# Altium schematic symbol library MCU_Module.SchLib: 64 symbols (part 2 of 2)
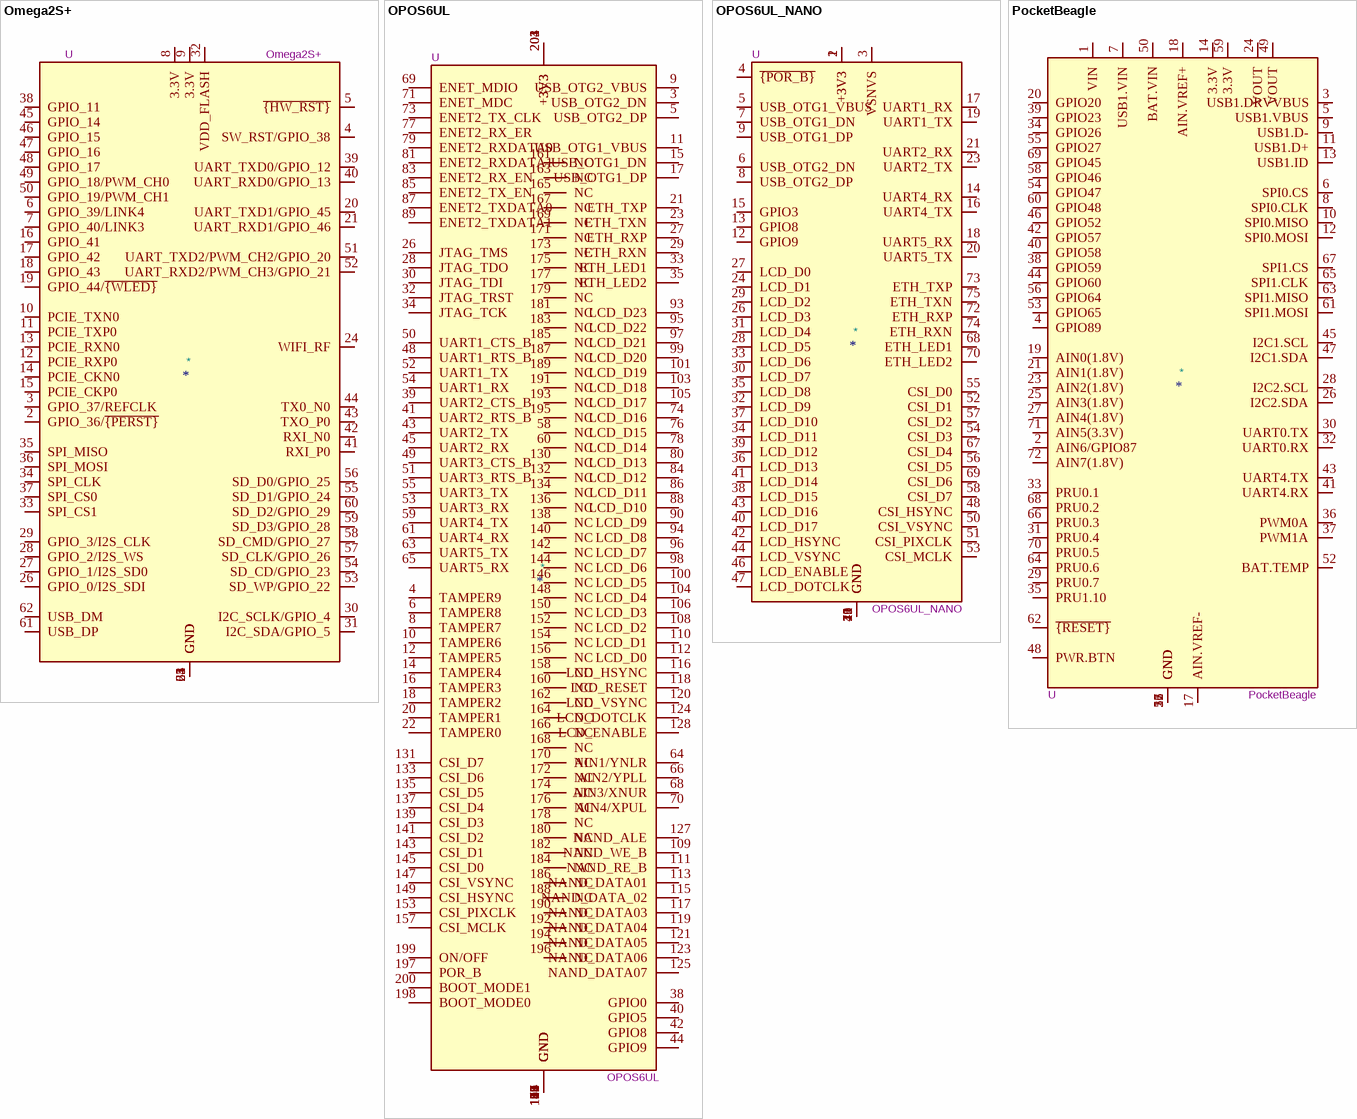
[diagram p12: symbols Omega2S+ to PocketBeagle]

## Omega2S+
designator *  value Omega2S+  Reference: U
Iot Computer Module by Onion, 128MB RAM, 32MB FLASH; ki_keywords: onion omega module; ki_fp_filters: Onion*Omega2S*; Footprint: Module:Onion_Omega2S; Datasheet: https://github.com/OnionIoT/Omega2/raw/master/Documents/Omega2S%20Datasheet.pdf; Description_: Iot Computer Module by Onion, 128MB RAM, 32MB FLASH
pins: 1 GND, 2 GPIO_36/~{{PERST}}, 3 GPIO_37/REFCLK, 4 SW_RST/GPIO_38, 5 ~{{HW_RST}}, 6 GPIO_39/LINK4, 7 GPIO_40/LINK3, 8 3.3V, 9 3.3V, 10 PCIE_TXN0, 11 PCIE_TXP0, 12 PCIE_RXP0, 13 PCIE_RXN0, 14 PCIE_CKN0, 15 PCIE_CKP0, 16 GPIO_41, 17 GPIO_42, 18 GPIO_43, 19 GPIO_44/~{{WLED}}, 20 UART_TXD1/GPIO_45, 21 UART_RXD1/GPIO_46, 22 GND, 23 GND, 24 WIFI_RF, 25 GND, 26 GPIO_0/I2S_SDI, 27 GPIO_1/I2S_SD0, 28 GPIO_2/I2S_WS, 29 GPIO_3/I2S_CLK, 30 I2C_SCLK/GPIO_4, 31 I2C_SDA/GPIO_5, 32 VDD_FLASH, 33 SPI_CS1, 34 SPI_CLK, 35 SPI_MISO, 36 SPI_MOSI, 37 SPI_CS0, 38 GPIO_11, 39 UART_TXD0/GPIO_12, 40 UART_RXD0/GPIO_13, 41 RXI_P0, 42 RXI_N0, 43 TXO_P0, 44 TX0_N0, 45 GPIO_14, 46 GPIO_15, 47 GPIO_16, 48 GPIO_17, 49 GPIO_18/PWM_CH0, 50 GPIO_19/PWM_CH1, 51 UART_TXD2/PWM_CH2/GPIO_20, 52 UART_RXD2/PWM_CH3/GPIO_21, 53 SD_WP/GPIO_22, 54 SD_CD/GPIO_23, 55 SD_D1/GPIO_24, 56 SD_D0/GPIO_25, 57 SD_CLK/GPIO_26, 58 SD_CMD/GPIO_27, 59 SD_D3/GPIO_28, 60 SD_D2/GPIO_29, 61 USB_DP, 62 USB_DM, 63 GND, 64 GND

## OPOS6UL
designator *  value OPOS6UL  Reference: U
Armadeus Systems i.MX6UL based single board computer, SODIMM; ki_keywords: armadeus systems opos6ul sbc som compute module; ki_fp_filters: *SODIMM*; Datasheet: http://www.opossom.com/_downloads/opos6ul/documentation/datasheet_opos6ul.pdf; Description_: Armadeus Systems i.MX6UL based single board computer, SODIMM
pins: 1 GND, 2 GND, 3 USB_OTG2_DN, 4 TAMPER9, 5 USB_OTG2_DP, 6 TAMPER8, 7 GND, 8 TAMPER7, 9 USB_OTG2_VBUS, 10 TAMPER6, 11 USB_OTG1_VBUS, 12 TAMPER5, 13 GND, 14 TAMPER4, 15 USB_OTG1_DN, 16 TAMPER3, 17 USB_OTG1_DP, 18 TAMPER2, 19 GND, 20 TAMPER1, 21 ETH_TXP, 22 TAMPER0, 23 ETH_TXN, 24 GND, 25 GND, 26 JTAG_TMS, 27 ETH_RXP, 28 JTAG_TDO, 29 ETH_RXN, 30 JTAG_TDI, 31 GND, 32 JTAG_TRST, 33 ETH_LED1, 34 JTAG_TCK, 35 ETH_LED2, 36 GND, 37 GND, 38 GPIO0, 39 UART2_CTS_B, 40 GPIO5, 41 UART2_RTS_B, 42 GPIO8, 43 UART2_TX, 44 GPIO9, 45 UART2_RX, 46 GND, 47 GND, 48 UART1_RTS_B, 49 UART3_CTS_B, 50 UART1_CTS_B, 51 UART3_RTS_B, 52 UART1_TX, 53 UART3_RX, 54 UART1_RX, 55 UART3_TX, 56 GND, 57 GND, 58 NC, 59 UART4_TX, 60 NC, 61 UART4_RX, 62 GND, 63 UART5_TX, 64 AIN1/YNLR, 65 UART5_RX, 66 AIN2/YPLL, 67 GND, 68 AIN3/XNUR, 69 ENET_MDIO, 70 AIN4/XPUL, 71 ENET_MDC, 72 GND, 73 ENET2_TX_CLK, 74 LCD_D16, 75 GND, 76 LCD_D15, 77 ENET2_RX_ER, 78 LCD_D14, 79 ENET2_RXDATA0, 80 LCD_D13, 81 ENET2_RXDATA1, 82 GND, 83 ENET2_RX_EN, 84 LCD_D12, 85 ENET2_TX_EN, 86 LCD_D11, 87 ENET2_TXDATA0, 88 LCD_D10, 89 ENET2_TXDATA1, 90 LCD_D9, 91 GND, 92 GND, 93 LCD_D23, 94 LCD_D8, 95 LCD_D22, 96 LCD_D7, 97 LCD_D21, 98 LCD_D6, 99 LCD_D20, 100 LCD_D5, 101 LCD_D19, 102 GND, 103 LCD_D18, 104 LCD_D4, 105 LCD_D17, 106 LCD_D3, 107 GND, 108 LCD_D2, 109 NAND_WE_B, 110 LCD_D1, 111 NAND_RE_B, 112 LCD_D0, 113 NAND_DATA01, 114 GND, 115 NAND_DATA_02, 116 LCD_HSYNC, 117 NAND_DATA03, 118 LCD_RESET, 119 NAND_DATA04, 120 LCD_VSYNC, 121 NAND_DATA05, 122 GND, 123 NAND_DATA06, 124 LCD_DOTCLK, 125 NAND_DATA07, 126 GND, 127 NAND_ALE, 128 LCD_ENABLE, 129 GND, 130 NC, 131 CSI_D7, 132 NC, 133 CSI_D6, 134 NC, 135 CSI_D5, 136 NC, 137 CSI_D4, 138 NC, 139 CSI_D3, 140 NC, 141 CSI_D2, 142 NC, 143 CSI_D1, 144 NC, 145 CSI_D0, 146 NC, 147 CSI_VSYNC, 148 NC, 149 CSI_HSYNC, 150 NC, 151 GND, 152 NC, 153 CSI_PIXCLK, 154 NC, 155 GND, 156 NC, 157 CSI_MCLK, 158 NC, 159 GND, 160 NC, 161 NC, 162 NC, 163 NC, 164 NC, 165 NC, 166 NC, 167 NC, 168 NC, 169 NC, 170 NC, 171 NC, 172 NC, 173 NC, 174 NC, 175 NC, 176 NC, 177 NC, 178 NC, 179 NC, 180 NC, 181 NC, 182 NC, 183 NC, 184 NC, 185 NC, 186 NC, 187 NC, 188 NC, 189 NC, 190 NC, 191 NC, 192 NC, 193 NC, 194 NC, 195 NC, 196 NC, 197 POR_B, 198 BOOT_MODE0, 199 ON/OFF, 200 BOOT_MODE1, 201 +3V3, 202 +3V3, 203 +3V3, 204 +3V3

## OPOS6UL_NANO
designator *  value OPOS6UL_NANO  Reference: U
NXP i.MX6ULL/i.MX6UL, 256 or 512 MB RAM, industrial SoM computer, M.2M (NGFF); ki_keywords: opos6ul compute module; ki_fp_filters: *M.2*; Datasheet: http://www.opossom.com/_downloads/opos6ul_nano/datasheet_opos6ul_nano.pdf; Description_: NXP i.MX6ULL/i.MX6UL, 256 or 512 MB RAM, industrial SoM computer, M.2M (NGFF)
pins: 1 +3V3, 2 +3V3, 3 VSNVS, 4 ~{{POR_B}}, 5 USB_OTG1_VBUS, 6 USB_OTG2_DN, 7 USB_OTG1_DN, 8 USB_OTG2_DP, 9 USB_OTG1_DP, 10 GND, 11 GND, 12 GPIO9, 13 GPIO8, 14 UART4_RX, 15 GPIO3, 16 UART4_TX, 17 UART1_RX, 18 UART5_RX, 19 UART1_TX, 20 UART5_TX, 21 UART2_RX, 22 GND, 23 UART2_TX, 24 LCD_D1, 25 GND, 26 LCD_D3, 27 LCD_D0, 28 LCD_D5, 29 LCD_D2, 30 LCD_D7, 31 LCD_D4, 32 LCD_D9, 33 LCD_D6, 34 LCD_D11, 35 LCD_D8, 36 LCD_D13, 37 LCD_D10, 38 LCD_D15, 39 LCD_D12, 40 LCD_D17, 41 LCD_D14, 42 LCD_HSYNC, 43 LCD_D16, 44 LCD_VSYNC, 45 GND, 46 LCD_ENABLE, 47 LCD_DOTCLK, 48 CSI_HSYNC, 49 GND, 50 CSI_VSYNC, 51 CSI_PIXCLK, 52 CSI_D1, 53 CSI_MCLK, 54 CSI_D3, 55 CSI_D0, 56 CSI_D5, 57 CSI_D2, 58 CSI_D7, 67 CSI_D4, 68 ETH_LED1, 69 CSI_D6, 70 ETH_LED2, 71 GND, 72 ETH_RXP, 73 ETH_TXP, 74 ETH_RXN, 75 ETH_TXN

## PocketBeagle
designator *  value PocketBeagle  Reference: U
Singleboard computer with ARM Cortex-A8 1GHz, 512MB RAM; ki_keywords: beagleboard pocketbeagle; ki_fp_filters: BeagleBoard*PocketBeagle*; Footprint: Module:BeagleBoard_PocketBeagle; Datasheet: https://github.com/beagleboard/pocketbeagle/wiki/System-Reference-Manual; Description_: Singleboard computer with ARM Cortex-A8 1GHz, 512MB RAM
pins: 1 VIN, 2 AIN6/GPIO87, 3 USB1.DRVVBUS, 4 GPIO89, 5 USB1.VBUS, 6 SPI0.CS, 7 USB1.VIN, 8 SPI0.CLK, 9 USB1.D-, 10 SPI0.MISO, 11 USB1.D+, 12 SPI0.MOSI, 13 USB1.ID, 14 3.3V, 15 GND, 16 GND, 17 AIN.VREF-, 18 AIN.VREF+, 19 AIN0(1.8V), 20 GPIO20, 21 AIN1(1.8V), 22 GND, 23 AIN2(1.8V), 24 VOUT, 25 AIN3(1.8V), 26 I2C2.SDA, 27 AIN4(1.8V), 28 I2C2.SCL, 29 PRU0.7, 30 UART0.TX, 31 PRU0.4, 32 UART0.RX, 33 PRU0.1, 34 GPIO26, 35 PRU1.10, 36 PWM0A, 37 PWM1A, 38 GPIO59, 39 GPIO23, 40 GPIO58, 41 UART4.RX, 42 GPIO57, 43 UART4.TX, 44 GPIO60, 45 I2C1.SCL, 46 GPIO52, 47 I2C1.SDA, 48 PWR.BTN, 49 VOUT, 50 BAT.VIN, 51 GND, 52 BAT.TEMP, 53 GPIO65, 54 GPIO47, 55 GPIO27, 56 GPIO64, 57 GND, 58 GPIO46, 59 3.3V, 60 GPIO48, 61 SPI1.MOSI, 62 ~{{RESET}}, 63 SPI1.MISO, 64 PRU0.6, 65 SPI1.CLK, 66 PRU0.3, 67 SPI1.CS, 68 PRU0.2, 69 GPIO45, 70 PRU0.5, 71 AIN5(3.3V), 72 AIN7(1.8V)

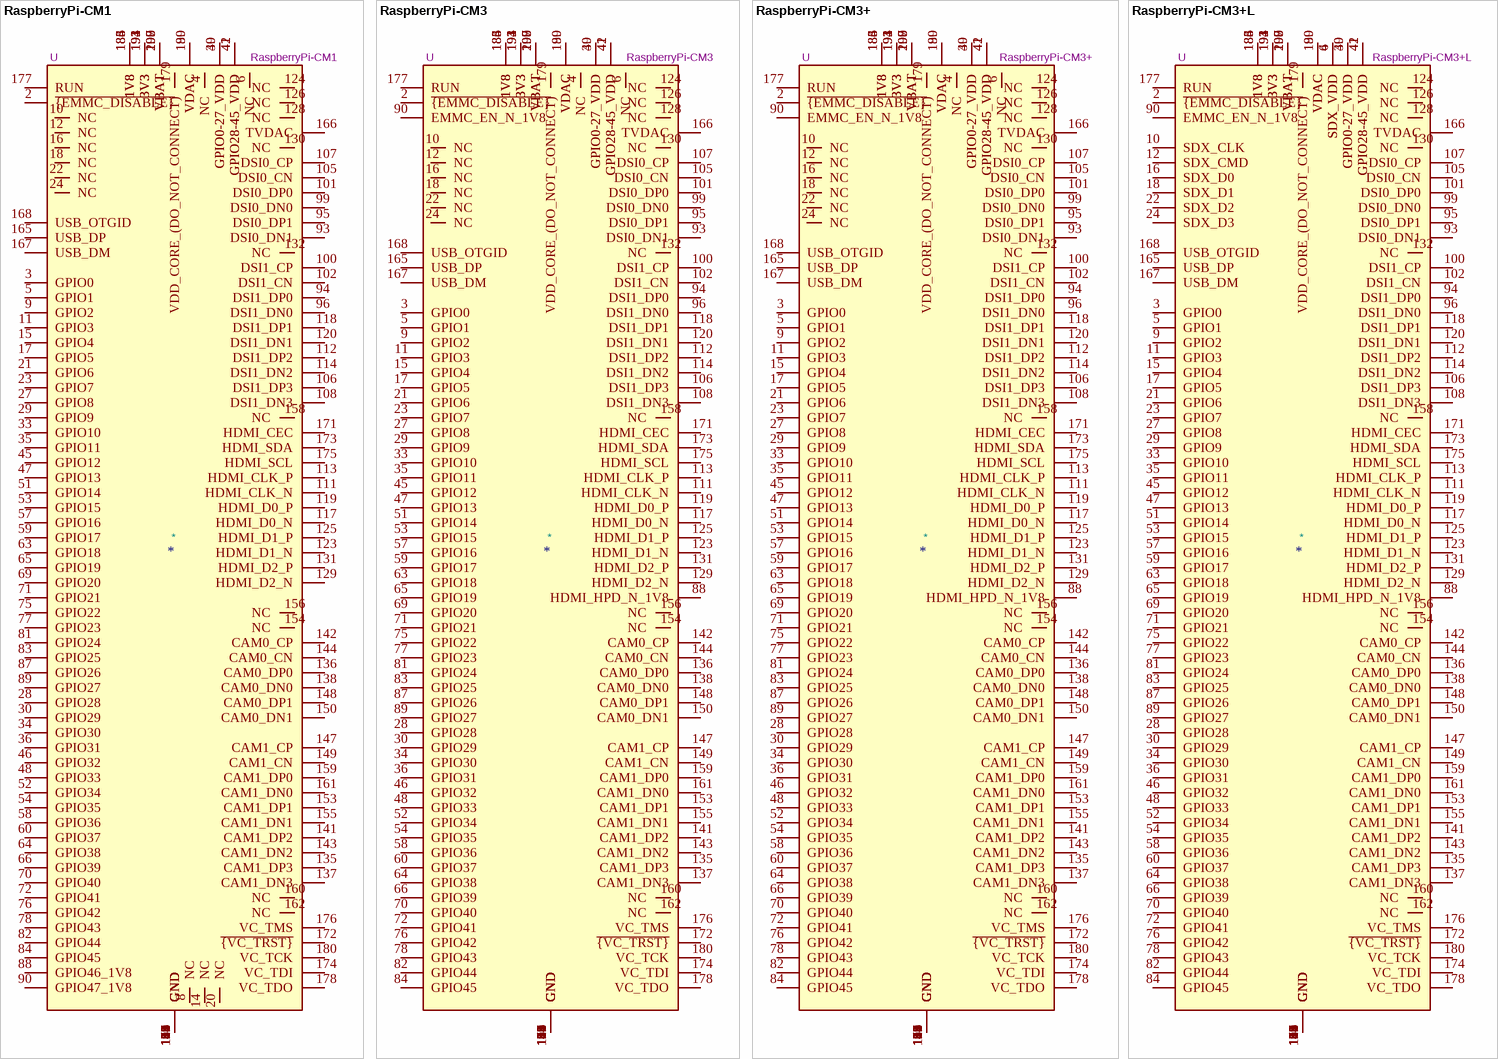
[diagram p8: symbols RaspberryPi-CM1 to RaspberryPi-CM3+L]

## RaspberryPi-CM1
designator *  value RaspberryPi-CM1  Reference: U
BCM2835 Broadcom 700 MZ single core, 512 MB RAM 4 GB eMMC, industrial SoM computer; ki_keywords: raspberry pi compute module; ki_fp_filters: *SODIMM*; Datasheet: https://www.raspberrypi.org/documentation/hardware/computemodule/datasheets/rpi_DATA_CM_1p0.pdf; Description_: BCM2835 Broadcom 700 MZ single core, 512 MB RAM 4 GB eMMC, industrial SoM computer
pins: 1 GND, 2 ~{{EMMC_DISABLE}}, 3 GPIO0, 4 NC, 5 GPIO1, 6 NC, 7 GND, 8 NC, 9 GPIO2, 10 NC, 11 GPIO3, 12 NC, 13 GND, 14 NC, 15 GPIO4, 16 NC, 17 GPIO5, 18 NC, 19 GND, 20 NC, 21 GPIO6, 22 NC, 23 GPIO7, 24 NC, 25 GND, 26 GND, 27 GPIO8, 28 GPIO28, 29 GPIO9, 30 GPIO29, 31 GND, 32 GND, 33 GPIO10, 34 GPIO30, 35 GPIO11, 36 GPIO31, 37 GND, 38 GND, 39 GPIO0-27_VDD, 40 GPIO0-27_VDD, 41 GPIO28-45_VDD, 42 GPIO28-45_VDD, 43 GND, 44 GND, 45 GPIO12, 46 GPIO32, 47 GPIO13, 48 GPIO33, 49 GND, 50 GND, 51 GPIO14, 52 GPIO34, 53 GPIO15, 54 GPIO35, 55 GND, 56 GND, 57 GPIO16, 58 GPIO36, 59 GPIO17, 60 GPIO37, 61 GND, 62 GND, 63 GPIO18, 64 GPIO38, 65 GPIO19, 66 GPIO39, 67 GND, 68 GND, 69 GPIO20, 70 GPIO40, 71 GPIO21, 72 GPIO41, 73 GND, 74 GND, 75 GPIO22, 76 GPIO42, 77 GPIO23, 78 GPIO43, 79 GND, 80 GND, 81 GPIO24, 82 GPIO44, 83 GPIO25, 84 GPIO45, 85 GND, 86 GND, 87 GPIO26, 88 GPIO46_1V8, 89 GPIO27, 90 GPIO47_1V8, 91 GND, 92 GND, 93 DSI0_DN1, 94 DSI1_DP0, 95 DSI0_DP1, 96 DSI1_DN0, 97 GND, 98 GND, 99 DSI0_DN0, 100 DSI1_CP, 101 DSI0_DP0, 102 DSI1_CN, 103 GND, 104 GND, 105 DSI0_CN, 106 DSI1_DP3, 107 DSI0_CP, 108 DSI1_DN3, 109 GND, 110 GND, 111 HDMI_CLK_N, 112 DSI1_DP2, 113 HDMI_CLK_P, 114 DSI1_DN2, 115 GND, 116 GND, 117 HDMI_D0_N, 118 DSI1_DP1, 119 HDMI_D0_P, 120 DSI1_DN1, 121 GND, 122 GND, 123 HDMI_D1_N, 124 NC, 125 HDMI_D1_P, 126 NC, 127 GND, 128 NC, 129 HDMI_D2_N, 130 NC, 131 HDMI_D2_P, 132 NC, 133 GND, 134 GND, 135 CAM1_DP3, 136 CAM0_DP0, 137 CAM1_DN3, 138 CAM0_DN0, 139 GND, 140 GND, 141 CAM1_DP2, 142 CAM0_CP, 143 CAM1_DN2, 144 CAM0_CN, 145 GND, 146 GND, 147 CAM1_CP, 148 CAM0_DP1, 149 CAM1_CN, 150 CAM0_DN1, 151 GND, 152 GND, 153 CAM1_DP1, 154 NC, 155 CAM1_DN1, 156 NC, 157 GND, 158 NC, 159 CAM1_DP0, 160 NC, 161 CAM1_DN0, 162 NC, 163 GND, 164 GND, 165 USB_DP, 166 TVDAC, 167 USB_DM, 168 USB_OTGID, 169 GND, 170 GND, 171 HDMI_CEC, 172 ~{{VC_TRST}}, 173 HDMI_SDA, 174 VC_TDI, 175 HDMI_SCL, 176 VC_TMS, 177 RUN, 178 VC_TDO, 179 VDD_CORE_(DO_NOT_CONNECT), 180 VC_TCK, 181 GND, 182 GND, 183 1V8, 184 1V8, 185 1V8, 186 1V8, 187 GND, 188 GND, 189 VDAC, 190 VDAC, 191 3V3, 192 3V3, 193 3V3, 194 3V3, 195 GND, 196 GND, 197 VBAT, 198 VBAT, 199 VBAT, 200 VBAT

## RaspberryPi-CM3
designator *  value RaspberryPi-CM3  Reference: U
BCM2837 Broadcom 1.2 GHZ quad core, 1 GB RAM 4 GB eMMC,  industrial SoM computer; ki_keywords: raspberry pi compute module; ki_fp_filters: *SODIMM*; Datasheet: https://www.raspberrypi.org/documentation/hardware/computemodule/datasheets/rpi_DATA_CM_1p0.pdf; Description_: BCM2837 Broadcom 1.2 GHZ quad core, 1 GB RAM 4 GB eMMC,  industrial SoM computer
pins: 1 GND, 2 ~{{EMMC_DISABLE}}, 3 GPIO0, 4 NC, 5 GPIO1, 6 NC, 7 GND, 8 GND, 9 GPIO2, 10 NC, 11 GPIO3, 12 NC, 13 GND, 14 GND, 15 GPIO4, 16 NC, 17 GPIO5, 18 NC, 19 GND, 20 GND, 21 GPIO6, 22 NC, 23 GPIO7, 24 NC, 25 GND, 26 GND, 27 GPIO8, 28 GPIO28, 29 GPIO9, 30 GPIO29, 31 GND, 32 GND, 33 GPIO10, 34 GPIO30, 35 GPIO11, 36 GPIO31, 37 GND, 38 GND, 39 GPIO0-27_VDD, 40 GPIO0-27_VDD, 41 GPIO28-45_VDD, 42 GPIO28-45_VDD, 43 GND, 44 GND, 45 GPIO12, 46 GPIO32, 47 GPIO13, 48 GPIO33, 49 GND, 50 GND, 51 GPIO14, 52 GPIO34, 53 GPIO15, 54 GPIO35, 55 GND, 56 GND, 57 GPIO16, 58 GPIO36, 59 GPIO17, 60 GPIO37, 61 GND, 62 GND, 63 GPIO18, 64 GPIO38, 65 GPIO19, 66 GPIO39, 67 GND, 68 GND, 69 GPIO20, 70 GPIO40, 71 GPIO21, 72 GPIO41, 73 GND, 74 GND, 75 GPIO22, 76 GPIO42, 77 GPIO23, 78 GPIO43, 79 GND, 80 GND, 81 GPIO24, 82 GPIO44, 83 GPIO25, 84 GPIO45, 85 GND, 86 GND, 87 GPIO26, 88 HDMI_HPD_N_1V8, 89 GPIO27, 90 EMMC_EN_N_1V8, 91 GND, 92 GND, 93 DSI0_DN1, 94 DSI1_DP0, 95 DSI0_DP1, 96 DSI1_DN0, 97 GND, 98 GND, 99 DSI0_DN0, 100 DSI1_CP, 101 DSI0_DP0, 102 DSI1_CN, 103 GND, 104 GND, 105 DSI0_CN, 106 DSI1_DP3, 107 DSI0_CP, 108 DSI1_DN3, 109 GND, 110 GND, 111 HDMI_CLK_N, 112 DSI1_DP2, 113 HDMI_CLK_P, 114 DSI1_DN2, 115 GND, 116 GND, 117 HDMI_D0_N, 118 DSI1_DP1, 119 HDMI_D0_P, 120 DSI1_DN1, 121 GND, 122 GND, 123 HDMI_D1_N, 124 NC, 125 HDMI_D1_P, 126 NC, 127 GND, 128 NC, 129 HDMI_D2_N, 130 NC, 131 HDMI_D2_P, 132 NC, 133 GND, 134 GND, 135 CAM1_DP3, 136 CAM0_DP0, 137 CAM1_DN3, 138 CAM0_DN0, 139 GND, 140 GND, 141 CAM1_DP2, 142 CAM0_CP, 143 CAM1_DN2, 144 CAM0_CN, 145 GND, 146 GND, 147 CAM1_CP, 148 CAM0_DP1, 149 CAM1_CN, 150 CAM0_DN1, 151 GND, 152 GND, 153 CAM1_DP1, 154 NC, 155 CAM1_DN1, 156 NC, 157 GND, 158 NC, 159 CAM1_DP0, 160 NC, 161 CAM1_DN0, 162 NC, 163 GND, 164 GND, 165 USB_DP, 166 TVDAC, 167 USB_DM, 168 USB_OTGID, 169 GND, 170 GND, 171 HDMI_CEC, 172 ~{{VC_TRST}}, 173 HDMI_SDA, 174 VC_TDI, 175 HDMI_SCL, 176 VC_TMS, 177 RUN, 178 VC_TDO, 179 VDD_CORE_(DO_NOT_CONNECT), 180 VC_TCK, 181 GND, 182 GND, 183 1V8, 184 1V8, 185 1V8, 186 1V8, 187 GND, 188 GND, 189 VDAC, 190 VDAC, 191 3V3, 192 3V3, 193 3V3, 194 3V3, 195 GND, 196 GND, 197 VBAT, 198 VBAT, 199 VBAT, 200 VBAT

## RaspberryPi-CM3+
designator *  value RaspberryPi-CM3+  Reference: U
BCM2837B0 Broadcom 1.2 GHZ quad core, 1 GB RAM 8/16/32 GB eMMC, industrial SoM computer; ki_keywords: raspberry pi compute module; ki_fp_filters: *SODIMM*; Datasheet: https://www.raspberrypi.org/documentation/hardware/computemodule/datasheets/rpi_DATA_CM3plus_1p0.pdf; Description_: BCM2837B0 Broadcom 1.2 GHZ quad core, 1 GB RAM 8/16/32 GB eMMC, industrial SoM computer
pins: 1 GND, 2 ~{{EMMC_DISABLE}}, 3 GPIO0, 4 NC, 5 GPIO1, 6 NC, 7 GND, 8 GND, 9 GPIO2, 10 NC, 11 GPIO3, 12 NC, 13 GND, 14 GND, 15 GPIO4, 16 NC, 17 GPIO5, 18 NC, 19 GND, 20 GND, 21 GPIO6, 22 NC, 23 GPIO7, 24 NC, 25 GND, 26 GND, 27 GPIO8, 28 GPIO28, 29 GPIO9, 30 GPIO29, 31 GND, 32 GND, 33 GPIO10, 34 GPIO30, 35 GPIO11, 36 GPIO31, 37 GND, 38 GND, 39 GPIO0-27_VDD, 40 GPIO0-27_VDD, 41 GPIO28-45_VDD, 42 GPIO28-45_VDD, 43 GND, 44 GND, 45 GPIO12, 46 GPIO32, 47 GPIO13, 48 GPIO33, 49 GND, 50 GND, 51 GPIO14, 52 GPIO34, 53 GPIO15, 54 GPIO35, 55 GND, 56 GND, 57 GPIO16, 58 GPIO36, 59 GPIO17, 60 GPIO37, 61 GND, 62 GND, 63 GPIO18, 64 GPIO38, 65 GPIO19, 66 GPIO39, 67 GND, 68 GND, 69 GPIO20, 70 GPIO40, 71 GPIO21, 72 GPIO41, 73 GND, 74 GND, 75 GPIO22, 76 GPIO42, 77 GPIO23, 78 GPIO43, 79 GND, 80 GND, 81 GPIO24, 82 GPIO44, 83 GPIO25, 84 GPIO45, 85 GND, 86 GND, 87 GPIO26, 88 HDMI_HPD_N_1V8, 89 GPIO27, 90 EMMC_EN_N_1V8, 91 GND, 92 GND, 93 DSI0_DN1, 94 DSI1_DP0, 95 DSI0_DP1, 96 DSI1_DN0, 97 GND, 98 GND, 99 DSI0_DN0, 100 DSI1_CP, 101 DSI0_DP0, 102 DSI1_CN, 103 GND, 104 GND, 105 DSI0_CN, 106 DSI1_DP3, 107 DSI0_CP, 108 DSI1_DN3, 109 GND, 110 GND, 111 HDMI_CLK_N, 112 DSI1_DP2, 113 HDMI_CLK_P, 114 DSI1_DN2, 115 GND, 116 GND, 117 HDMI_D0_N, 118 DSI1_DP1, 119 HDMI_D0_P, 120 DSI1_DN1, 121 GND, 122 GND, 123 HDMI_D1_N, 124 NC, 125 HDMI_D1_P, 126 NC, 127 GND, 128 NC, 129 HDMI_D2_N, 130 NC, 131 HDMI_D2_P, 132 NC, 133 GND, 134 GND, 135 CAM1_DP3, 136 CAM0_DP0, 137 CAM1_DN3, 138 CAM0_DN0, 139 GND, 140 GND, 141 CAM1_DP2, 142 CAM0_CP, 143 CAM1_DN2, 144 CAM0_CN, 145 GND, 146 GND, 147 CAM1_CP, 148 CAM0_DP1, 149 CAM1_CN, 150 CAM0_DN1, 151 GND, 152 GND, 153 CAM1_DP1, 154 NC, 155 CAM1_DN1, 156 NC, 157 GND, 158 NC, 159 CAM1_DP0, 160 NC, 161 CAM1_DN0, 162 NC, 163 GND, 164 GND, 165 USB_DP, 166 TVDAC, 167 USB_DM, 168 USB_OTGID, 169 GND, 170 GND, 171 HDMI_CEC, 172 ~{{VC_TRST}}, 173 HDMI_SDA, 174 VC_TDI, 175 HDMI_SCL, 176 VC_TMS, 177 RUN, 178 VC_TDO, 179 VDD_CORE_(DO_NOT_CONNECT), 180 VC_TCK, 181 GND, 182 GND, 183 1V8, 184 1V8, 185 1V8, 186 1V8, 187 GND, 188 GND, 189 VDAC, 190 VDAC, 191 3V3, 192 3V3, 193 3V3, 194 3V3, 195 GND, 196 GND, 197 VBAT, 198 VBAT, 199 VBAT, 200 VBAT

## RaspberryPi-CM3+L
designator *  value RaspberryPi-CM3+L  Reference: U
BCM2837B0 Broadcom 1.2 GHZ quad core, 1 GB RAM, industrial SoM computer; ki_keywords: raspberry pi compute module; ki_fp_filters: *SODIMM*; Datasheet: https://www.raspberrypi.org/documentation/hardware/computemodule/datasheets/rpi_DATA_CM3plus_1p0.pdf; Description_: BCM2837B0 Broadcom 1.2 GHZ quad core, 1 GB RAM, industrial SoM computer
pins: 1 GND, 2 ~{{EMMC_DISABLE}}, 3 GPIO0, 4 SDX_VDD, 5 GPIO1, 6 SDX_VDD, 7 GND, 8 GND, 9 GPIO2, 10 SDX_CLK, 11 GPIO3, 12 SDX_CMD, 13 GND, 14 GND, 15 GPIO4, 16 SDX_D0, 17 GPIO5, 18 SDX_D1, 19 GND, 20 GND, 21 GPIO6, 22 SDX_D2, 23 GPIO7, 24 SDX_D3, 25 GND, 26 GND, 27 GPIO8, 28 GPIO28, 29 GPIO9, 30 GPIO29, 31 GND, 32 GND, 33 GPIO10, 34 GPIO30, 35 GPIO11, 36 GPIO31, 37 GND, 38 GND, 39 GPIO0-27_VDD, 40 GPIO0-27_VDD, 41 GPIO28-45_VDD, 42 GPIO28-45_VDD, 43 GND, 44 GND, 45 GPIO12, 46 GPIO32, 47 GPIO13, 48 GPIO33, 49 GND, 50 GND, 51 GPIO14, 52 GPIO34, 53 GPIO15, 54 GPIO35, 55 GND, 56 GND, 57 GPIO16, 58 GPIO36, 59 GPIO17, 60 GPIO37, 61 GND, 62 GND, 63 GPIO18, 64 GPIO38, 65 GPIO19, 66 GPIO39, 67 GND, 68 GND, 69 GPIO20, 70 GPIO40, 71 GPIO21, 72 GPIO41, 73 GND, 74 GND, 75 GPIO22, 76 GPIO42, 77 GPIO23, 78 GPIO43, 79 GND, 80 GND, 81 GPIO24, 82 GPIO44, 83 GPIO25, 84 GPIO45, 85 GND, 86 GND, 87 GPIO26, 88 HDMI_HPD_N_1V8, 89 GPIO27, 90 EMMC_EN_N_1V8, 91 GND, 92 GND, 93 DSI0_DN1, 94 DSI1_DP0, 95 DSI0_DP1, 96 DSI1_DN0, 97 GND, 98 GND, 99 DSI0_DN0, 100 DSI1_CP, 101 DSI0_DP0, 102 DSI1_CN, 103 GND, 104 GND, 105 DSI0_CN, 106 DSI1_DP3, 107 DSI0_CP, 108 DSI1_DN3, 109 GND, 110 GND, 111 HDMI_CLK_N, 112 DSI1_DP2, 113 HDMI_CLK_P, 114 DSI1_DN2, 115 GND, 116 GND, 117 HDMI_D0_N, 118 DSI1_DP1, 119 HDMI_D0_P, 120 DSI1_DN1, 121 GND, 122 GND, 123 HDMI_D1_N, 124 NC, 125 HDMI_D1_P, 126 NC, 127 GND, 128 NC, 129 HDMI_D2_N, 130 NC, 131 HDMI_D2_P, 132 NC, 133 GND, 134 GND, 135 CAM1_DP3, 136 CAM0_DP0, 137 CAM1_DN3, 138 CAM0_DN0, 139 GND, 140 GND, 141 CAM1_DP2, 142 CAM0_CP, 143 CAM1_DN2, 144 CAM0_CN, 145 GND, 146 GND, 147 CAM1_CP, 148 CAM0_DP1, 149 CAM1_CN, 150 CAM0_DN1, 151 GND, 152 GND, 153 CAM1_DP1, 154 NC, 155 CAM1_DN1, 156 NC, 157 GND, 158 NC, 159 CAM1_DP0, 160 NC, 161 CAM1_DN0, 162 NC, 163 GND, 164 GND, 165 USB_DP, 166 TVDAC, 167 USB_DM, 168 USB_OTGID, 169 GND, 170 GND, 171 HDMI_CEC, 172 ~{{VC_TRST}}, 173 HDMI_SDA, 174 VC_TDI, 175 HDMI_SCL, 176 VC_TMS, 177 RUN, 178 VC_TDO, 179 VDD_CORE_(DO_NOT_CONNECT), 180 VC_TCK, 181 GND, 182 GND, 183 1V8, 184 1V8, 185 1V8, 186 1V8, 187 GND, 188 GND, 189 VDAC, 190 VDAC, 191 3V3, 192 3V3, 193 3V3, 194 3V3, 195 GND, 196 GND, 197 VBAT, 198 VBAT, 199 VBAT, 200 VBAT

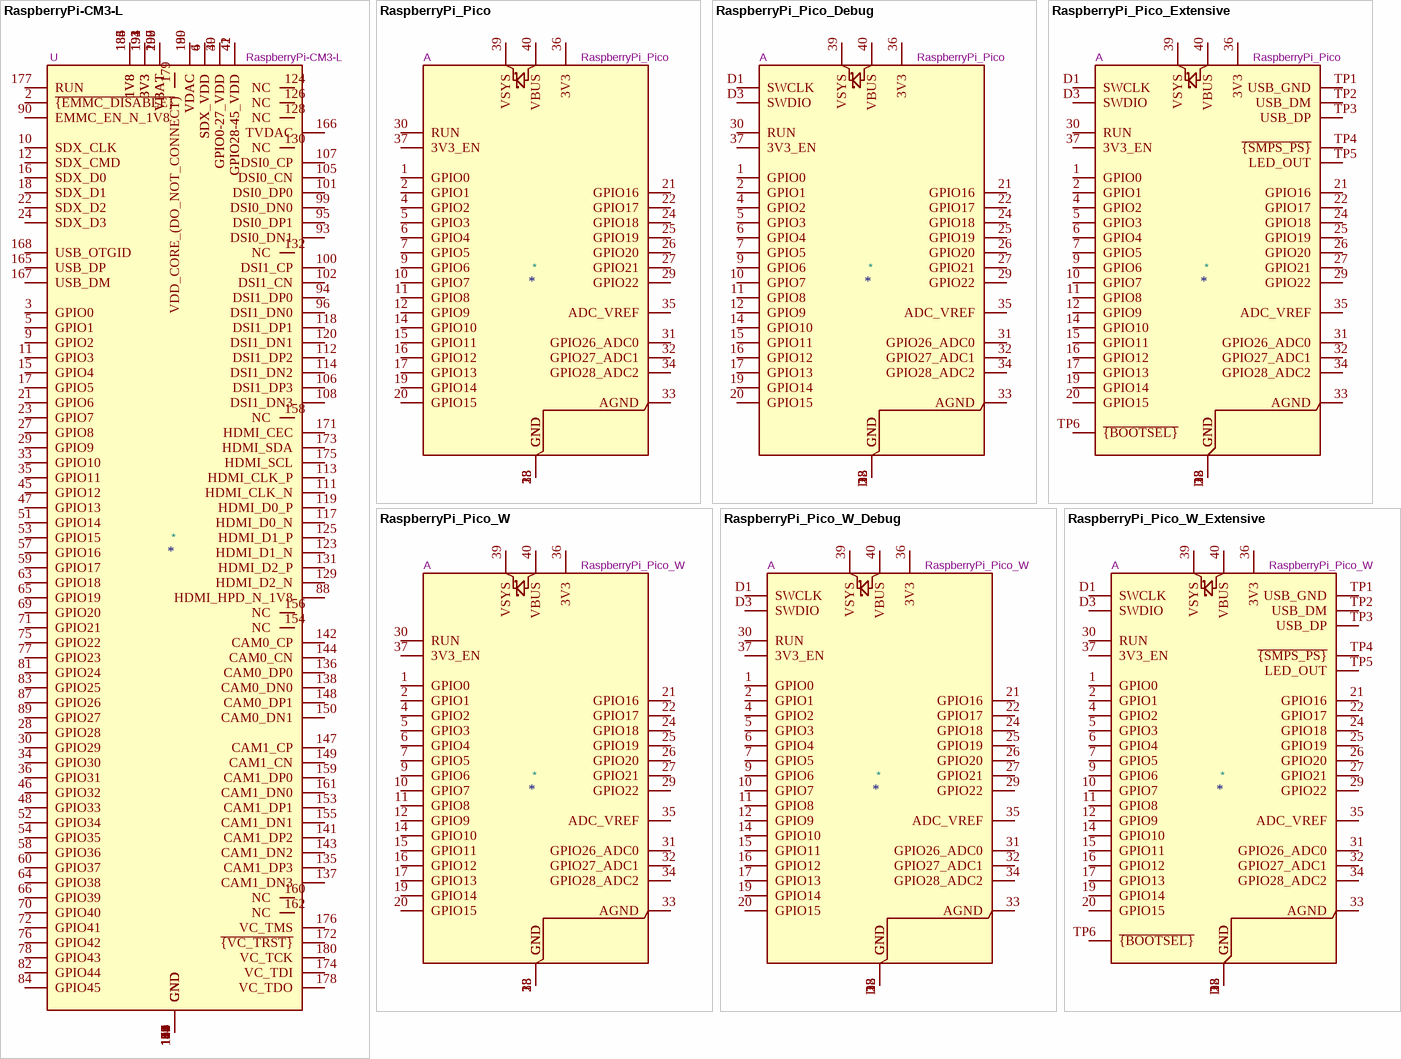
[diagram p9: symbols RaspberryPi-CM3-L to RaspberryPi_Pico_W_Extensive]

## RaspberryPi-CM3-L
designator *  value RaspberryPi-CM3-L  Reference: U
BCM2837 Broadcom 1.2 GHZ quad core, 1 GB RAM, industrial SoM computer; ki_keywords: raspberry pi compute module; ki_fp_filters: *SODIMM*; Datasheet: https://www.raspberrypi.org/documentation/hardware/computemodule/datasheets/rpi_DATA_CM_1p0.pdf; Description_: BCM2837 Broadcom 1.2 GHZ quad core, 1 GB RAM, industrial SoM computer
pins: 1 GND, 2 ~{{EMMC_DISABLE}}, 3 GPIO0, 4 SDX_VDD, 5 GPIO1, 6 SDX_VDD, 7 GND, 8 GND, 9 GPIO2, 10 SDX_CLK, 11 GPIO3, 12 SDX_CMD, 13 GND, 14 GND, 15 GPIO4, 16 SDX_D0, 17 GPIO5, 18 SDX_D1, 19 GND, 20 GND, 21 GPIO6, 22 SDX_D2, 23 GPIO7, 24 SDX_D3, 25 GND, 26 GND, 27 GPIO8, 28 GPIO28, 29 GPIO9, 30 GPIO29, 31 GND, 32 GND, 33 GPIO10, 34 GPIO30, 35 GPIO11, 36 GPIO31, 37 GND, 38 GND, 39 GPIO0-27_VDD, 40 GPIO0-27_VDD, 41 GPIO28-45_VDD, 42 GPIO28-45_VDD, 43 GND, 44 GND, 45 GPIO12, 46 GPIO32, 47 GPIO13, 48 GPIO33, 49 GND, 50 GND, 51 GPIO14, 52 GPIO34, 53 GPIO15, 54 GPIO35, 55 GND, 56 GND, 57 GPIO16, 58 GPIO36, 59 GPIO17, 60 GPIO37, 61 GND, 62 GND, 63 GPIO18, 64 GPIO38, 65 GPIO19, 66 GPIO39, 67 GND, 68 GND, 69 GPIO20, 70 GPIO40, 71 GPIO21, 72 GPIO41, 73 GND, 74 GND, 75 GPIO22, 76 GPIO42, 77 GPIO23, 78 GPIO43, 79 GND, 80 GND, 81 GPIO24, 82 GPIO44, 83 GPIO25, 84 GPIO45, 85 GND, 86 GND, 87 GPIO26, 88 HDMI_HPD_N_1V8, 89 GPIO27, 90 EMMC_EN_N_1V8, 91 GND, 92 GND, 93 DSI0_DN1, 94 DSI1_DP0, 95 DSI0_DP1, 96 DSI1_DN0, 97 GND, 98 GND, 99 DSI0_DN0, 100 DSI1_CP, 101 DSI0_DP0, 102 DSI1_CN, 103 GND, 104 GND, 105 DSI0_CN, 106 DSI1_DP3, 107 DSI0_CP, 108 DSI1_DN3, 109 GND, 110 GND, 111 HDMI_CLK_N, 112 DSI1_DP2, 113 HDMI_CLK_P, 114 DSI1_DN2, 115 GND, 116 GND, 117 HDMI_D0_N, 118 DSI1_DP1, 119 HDMI_D0_P, 120 DSI1_DN1, 121 GND, 122 GND, 123 HDMI_D1_N, 124 NC, 125 HDMI_D1_P, 126 NC, 127 GND, 128 NC, 129 HDMI_D2_N, 130 NC, 131 HDMI_D2_P, 132 NC, 133 GND, 134 GND, 135 CAM1_DP3, 136 CAM0_DP0, 137 CAM1_DN3, 138 CAM0_DN0, 139 GND, 140 GND, 141 CAM1_DP2, 142 CAM0_CP, 143 CAM1_DN2, 144 CAM0_CN, 145 GND, 146 GND, 147 CAM1_CP, 148 CAM0_DP1, 149 CAM1_CN, 150 CAM0_DN1, 151 GND, 152 GND, 153 CAM1_DP1, 154 NC, 155 CAM1_DN1, 156 NC, 157 GND, 158 NC, 159 CAM1_DP0, 160 NC, 161 CAM1_DN0, 162 NC, 163 GND, 164 GND, 165 USB_DP, 166 TVDAC, 167 USB_DM, 168 USB_OTGID, 169 GND, 170 GND, 171 HDMI_CEC, 172 ~{{VC_TRST}}, 173 HDMI_SDA, 174 VC_TDI, 175 HDMI_SCL, 176 VC_TMS, 177 RUN, 178 VC_TDO, 179 VDD_CORE_(DO_NOT_CONNECT), 180 VC_TCK, 181 GND, 182 GND, 183 1V8, 184 1V8, 185 1V8, 186 1V8, 187 GND, 188 GND, 189 VDAC, 190 VDAC, 191 3V3, 192 3V3, 193 3V3, 194 3V3, 195 GND, 196 GND, 197 VBAT, 198 VBAT, 199 VBAT, 200 VBAT

## RaspberryPi_Pico
designator *  value RaspberryPi_Pico  Reference: A
Versatile and inexpensive microcontroller module powered by RP2040 dual-core Arm Cortex-M0+ processor up to 133 MHz, 264kB SRAM, 2MB QSPI flash; also supports Raspberry Pi Pico 2; ki_keywords: RP2350A M33 RISC-V Hazard3 usb; ki_fp_filters: RaspberryPi?Pico?Common* RaspberryPi?Pico?SMD*; Footprint: Module:RaspberryPi_Pico_Common_Unspecified; Datasheet: https://datasheets.raspberrypi.com/pico/pico-datasheet.pdf; Description_: Versatile and inexpensive microcontroller module powered by RP2040 dual-core Arm Cortex-M0+ processor up to 133 MHz, 264kB SRAM, 2MB QSPI flash; also supports Raspberry Pi Pico 2
pins: 1 GPIO0, 2 GPIO1, 3 GND, 4 GPIO2, 5 GPIO3, 6 GPIO4, 7 GPIO5, 8 GND, 9 GPIO6, 10 GPIO7, 11 GPIO8, 12 GPIO9, 13 GND, 14 GPIO10, 15 GPIO11, 16 GPIO12, 17 GPIO13, 18 GND, 19 GPIO14, 20 GPIO15, 21 GPIO16, 22 GPIO17, 23 GND, 24 GPIO18, 25 GPIO19, 26 GPIO20, 27 GPIO21, 28 GND, 29 GPIO22, 30 RUN, 31 GPIO26_ADC0, 32 GPIO27_ADC1, 33 AGND, 34 GPIO28_ADC2, 35 ADC_VREF, 36 3V3, 37 3V3_EN, 38 GND, 39 VSYS, 40 VBUS

## RaspberryPi_Pico_Debug
designator *  value RaspberryPi_Pico  Reference: A
Versatile and inexpensive microcontroller module (with debug pins) powered by RP2040 dual-core Arm Cortex-M0+ processor up to 133 MHz, 264kB SRAM, 2MB QSPI flash; also supports Raspberry Pi Pico 2; ki_keywords: RP2350A M33 RISC-V Hazard3 usb swd; ki_fp_filters: RaspberryPi?Pico?SMD*; Footprint: Module:RaspberryPi_Pico_SMD_HandSolder; Datasheet: https://datasheets.raspberrypi.com/pico/pico-datasheet.pdf; Description_: Versatile and inexpensive microcontroller module (with debug pins) powered by RP2040 dual-core Arm Cortex-M0+ processor up to 133 MHz, 264kB SRAM, 2MB QSPI flash; also supports Raspberry Pi Pico 2
pins: 1 GPIO0, 2 GPIO1, 3 GND, 4 GPIO2, 5 GPIO3, 6 GPIO4, 7 GPIO5, 8 GND, 9 GPIO6, 10 GPIO7, 11 GPIO8, 12 GPIO9, 13 GND, 14 GPIO10, 15 GPIO11, 16 GPIO12, 17 GPIO13, 18 GND, 19 GPIO14, 20 GPIO15, 21 GPIO16, 22 GPIO17, 23 GND, 24 GPIO18, 25 GPIO19, 26 GPIO20, 27 GPIO21, 28 GND, 29 GPIO22, 30 RUN, 31 GPIO26_ADC0, 32 GPIO27_ADC1, 33 AGND, 34 GPIO28_ADC2, 35 ADC_VREF, 36 3V3, 37 3V3_EN, 38 GND, 39 VSYS, 40 VBUS, D1 SWCLK, D2 GND, D3 SWDIO

## RaspberryPi_Pico_Extensive
designator *  value RaspberryPi_Pico  Reference: A
Versatile and inexpensive microcontroller module (with full pinout for test point and debug connections) powered by RP2040 dual-core Arm Cortex-M0+ processor up to 133 MHz, 264kB SRAM, 2MB QSPI flash; also supports Raspberry Pi Pico 2; ki_keywords: RP2350A M33 RISC-V Hazard3 usb swd; ki_fp_filters: RaspberryPi?Pico?SMD; Footprint: Module:RaspberryPi_Pico_SMD; Datasheet: https://datasheets.raspberrypi.com/pico/pico-datasheet.pdf; Description_: Versatile and inexpensive microcontroller module (with full pinout for test point and debug connections) powered by RP2040 dual-core Arm Cortex-M0+ processor up to 133 MHz, 264kB SRAM, 2MB QSPI flash; also supports Raspberry Pi Pico 2
pins: 1 GPIO0, 2 GPIO1, 3 GND, 4 GPIO2, 5 GPIO3, 6 GPIO4, 7 GPIO5, 8 GND, 9 GPIO6, 10 GPIO7, 11 GPIO8, 12 GPIO9, 13 GND, 14 GPIO10, 15 GPIO11, 16 GPIO12, 17 GPIO13, 18 GND, 19 GPIO14, 20 GPIO15, 21 GPIO16, 22 GPIO17, 23 GND, 24 GPIO18, 25 GPIO19, 26 GPIO20, 27 GPIO21, 28 GND, 29 GPIO22, 30 RUN, 31 GPIO26_ADC0, 32 GPIO27_ADC1, 33 AGND, 34 GPIO28_ADC2, 35 ADC_VREF, 36 3V3, 37 3V3_EN, 38 GND, 39 VSYS, 40 VBUS, D1 SWCLK, D2 GND, D3 SWDIO, TP1 USB_GND, TP2 USB_DM, TP3 USB_DP, TP4 ~{{SMPS_PS}}, TP5 LED_OUT, TP6 ~{{BOOTSEL}}

## RaspberryPi_Pico_W
designator *  value RaspberryPi_Pico_W  Reference: A
Versatile and inexpensive wireless microcontroller module powered by RP2040 dual-core Arm Cortex-M0+ processor up to 133 MHz, 264kB SRAM, 2MB QSPI flash, Infineon CYW43439 2.4GHz 802.11n wireless LAN; also supports Raspberry Pi Pico 2 W; ki_keywords: RP2350A M33 RISC-V Hazard3 usb wifi bluetooth; ki_fp_filters: RaspberryPi?Pico?Common* RaspberryPi?Pico?W?SMD*; Footprint: Module:RaspberryPi_Pico_W_SMD_HandSolder; Datasheet: https://datasheets.raspberrypi.com/picow/pico-w-datasheet.pdf; Description_: Versatile and inexpensive wireless microcontroller module powered by RP2040 dual-core Arm Cortex-M0+ processor up to 133 MHz, 264kB SRAM, 2MB QSPI flash, Infineon CYW43439 2.4GHz 802.11n wireless LAN; also supports Raspberry Pi Pico 2 W
pins: 1 GPIO0, 2 GPIO1, 3 GND, 4 GPIO2, 5 GPIO3, 6 GPIO4, 7 GPIO5, 8 GND, 9 GPIO6, 10 GPIO7, 11 GPIO8, 12 GPIO9, 13 GND, 14 GPIO10, 15 GPIO11, 16 GPIO12, 17 GPIO13, 18 GND, 19 GPIO14, 20 GPIO15, 21 GPIO16, 22 GPIO17, 23 GND, 24 GPIO18, 25 GPIO19, 26 GPIO20, 27 GPIO21, 28 GND, 29 GPIO22, 30 RUN, 31 GPIO26_ADC0, 32 GPIO27_ADC1, 33 AGND, 34 GPIO28_ADC2, 35 ADC_VREF, 36 3V3, 37 3V3_EN, 38 GND, 39 VSYS, 40 VBUS

## RaspberryPi_Pico_W_Debug
designator *  value RaspberryPi_Pico_W  Reference: A
Versatile and inexpensive wireless microcontroller module (with debug pins) powered by RP2040 dual-core Arm Cortex-M0+ processor up to 133 MHz, 264kB SRAM, 2MB QSPI flash, Infineon CYW43439 2.4GHz 802.11n wireless LAN; also supports Raspberry Pi Pico 2 W; ki_keywords: RP2350A M33 RISC-V Hazard3 usb swd wifi bluetooth; ki_fp_filters: RaspberryPi?Pico?W?SMD*; Footprint: Module:RaspberryPi_Pico_W_SMD_HandSolder; Datasheet: https://datasheets.raspberrypi.com/picow/pico-w-datasheet.pdf; Description_: Versatile and inexpensive wireless microcontroller module (with debug pins) powered by RP2040 dual-core Arm Cortex-M0+ processor up to 133 MHz, 264kB SRAM, 2MB QSPI flash, Infineon CYW43439 2.4GHz 802.11n wireless LAN; also supports Raspberry Pi Pico 2 W
pins: 1 GPIO0, 2 GPIO1, 3 GND, 4 GPIO2, 5 GPIO3, 6 GPIO4, 7 GPIO5, 8 GND, 9 GPIO6, 10 GPIO7, 11 GPIO8, 12 GPIO9, 13 GND, 14 GPIO10, 15 GPIO11, 16 GPIO12, 17 GPIO13, 18 GND, 19 GPIO14, 20 GPIO15, 21 GPIO16, 22 GPIO17, 23 GND, 24 GPIO18, 25 GPIO19, 26 GPIO20, 27 GPIO21, 28 GND, 29 GPIO22, 30 RUN, 31 GPIO26_ADC0, 32 GPIO27_ADC1, 33 AGND, 34 GPIO28_ADC2, 35 ADC_VREF, 36 3V3, 37 3V3_EN, 38 GND, 39 VSYS, 40 VBUS, D1 SWCLK, D2 GND, D3 SWDIO

## RaspberryPi_Pico_W_Extensive
designator *  value RaspberryPi_Pico_W  Reference: A
Versatile and inexpensive wireless microcontroller module (with full pinout for test point and debug connections) powered by RP2040 dual-core Arm Cortex-M0+ processor up to 133 MHz, 264kB SRAM, 2MB QSPI flash, Infineon CYW43439 2.4GHz 802.11n wireless LAN; also supports Raspberry Pi Pico 2 W; ki_keywords: RP2350A M33 RISC-V Hazard3 usb swd wifi bluetooth; ki_fp_filters: RaspberryPi?Pico?W?SMD; Footprint: Module:RaspberryPi_Pico_W_SMD; Datasheet: https://datasheets.raspberrypi.com/picow/pico-w-datasheet.pdf; Description_: Versatile and inexpensive wireless microcontroller module (with full pinout for test point and debug connections) powered by RP2040 dual-core Arm Cortex-M0+ processor up to 133 MHz, 264kB SRAM, 2MB QSPI flash, Infineon CYW43439 2.4GHz 802.11n wireless LAN; also supports Raspberry Pi Pico 2 W
pins: 1 GPIO0, 2 GPIO1, 3 GND, 4 GPIO2, 5 GPIO3, 6 GPIO4, 7 GPIO5, 8 GND, 9 GPIO6, 10 GPIO7, 11 GPIO8, 12 GPIO9, 13 GND, 14 GPIO10, 15 GPIO11, 16 GPIO12, 17 GPIO13, 18 GND, 19 GPIO14, 20 GPIO15, 21 GPIO16, 22 GPIO17, 23 GND, 24 GPIO18, 25 GPIO19, 26 GPIO20, 27 GPIO21, 28 GND, 29 GPIO22, 30 RUN, 31 GPIO26_ADC0, 32 GPIO27_ADC1, 33 AGND, 34 GPIO28_ADC2, 35 ADC_VREF, 36 3V3, 37 3V3_EN, 38 GND, 39 VSYS, 40 VBUS, D1 SWCLK, D2 GND, D3 SWDIO, TP1 USB_GND, TP2 USB_DM, TP3 USB_DP, TP4 ~{{SMPS_PS}}, TP5 LED_OUT, TP6 ~{{BOOTSEL}}

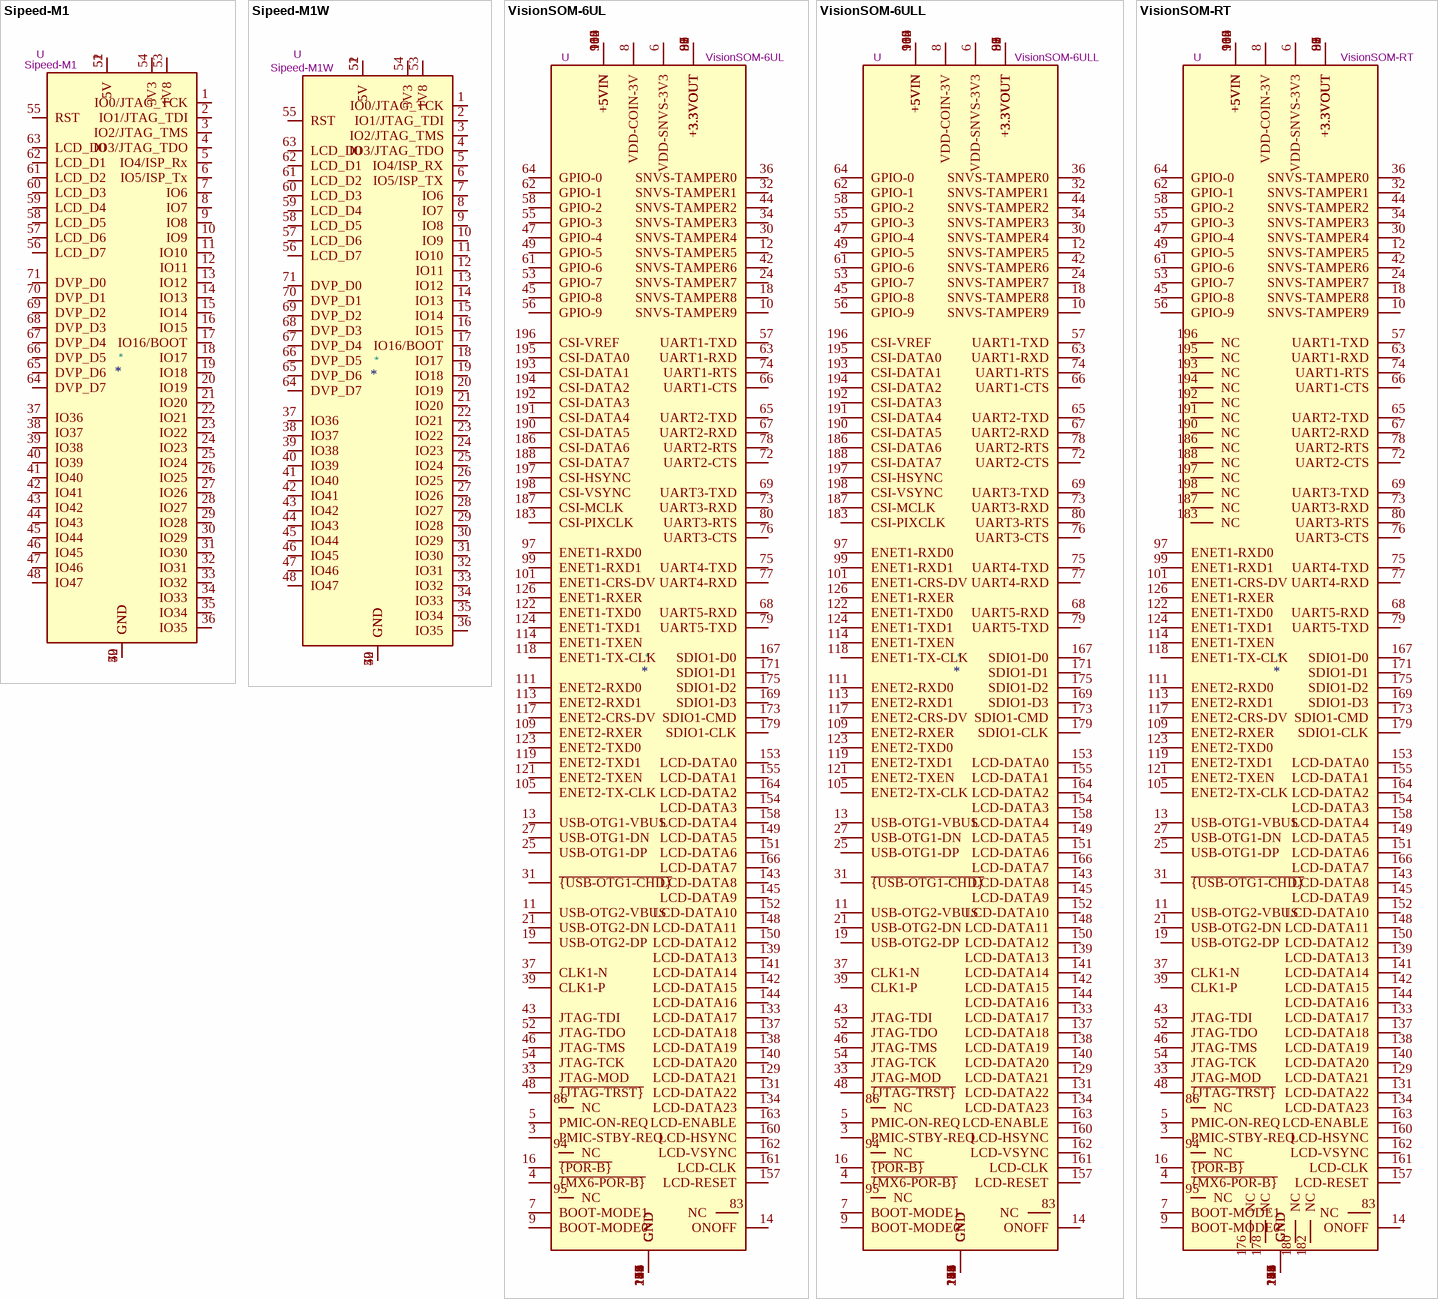
[diagram p10: symbols Sipeed-M1 to VisionSOM-RT]

## Sipeed-M1
designator *  value Sipeed-M1  Reference: U
AI accelerated RISC-V microcontroller; ki_keywords: AI Kendryte K210 RISC-V; ki_fp_filters: Sipeed?*M1*; Footprint: Module:Sipeed-M1; Datasheet: https://dl.sipeed.com/MAIX/HDK/Sipeed-M1&M1W/Specifications; Description_: AI accelerated RISC-V microcontroller
pins: 1 IO0/JTAG_TCK, 2 IO1/JTAG_TDI, 3 IO2/JTAG_TMS, 4 IO3/JTAG_TDO, 5 IO4/ISP_Rx, 6 IO5/ISP_Tx, 7 IO6, 8 IO7, 9 IO8, 10 IO9, 11 IO10, 12 IO11, 13 IO12, 14 IO13, 15 IO14, 16 IO15, 17 IO16/BOOT, 18 IO17, 19 IO18, 20 IO19, 21 IO20, 22 IO21, 23 IO22, 24 IO23, 25 IO24, 26 IO25, 27 IO26, 28 IO27, 29 IO28, 30 IO29, 31 IO30, 32 IO31, 33 IO32, 34 IO33, 35 IO34, 36 IO35, 37 IO36, 38 IO37, 39 IO38, 40 IO39, 41 IO40, 42 IO41, 43 IO42, 44 IO43, 45 IO44, 46 IO45, 47 IO46, 48 IO47, 49 GND, 50 GND, 51 5V, 52 5V, 53 1V8, 54 3V3, 55 RST, 56 LCD_D7, 57 LCD_D6, 58 LCD_D5, 59 LCD_D4, 60 LCD_D3, 61 LCD_D2, 62 LCD_D1, 63 LCD_D0, 64 DVP_D7, 65 DVP_D6, 66 DVP_D5, 67 DVP_D4, 68 DVP_D3, 69 DVP_D2, 70 DVP_D1, 71 DVP_D0, 72 GND

## Sipeed-M1W
designator *  value Sipeed-M1W  Reference: U
AI Accelerated RISC-V MCU with WiFi; ki_keywords: WiFi K210 Kendryte; ki_fp_filters: Sipeed?*M1W*; Footprint: Module:Sipeed-M1W; Datasheet: https://dl.sipeed.com/MAIX/HDK/Sipeed-M1&M1W/Specifications; Description_: AI Accelerated RISC-V MCU with WiFi
pins: 1 IO0/JTAG_TCK, 2 IO1/JTAG_TDI, 3 IO2/JTAG_TMS, 4 IO3/JTAG_TDO, 5 IO4/ISP_RX, 6 IO5/ISP_TX, 7 IO6, 8 IO7, 9 IO8, 10 IO9, 11 IO10, 12 IO11, 13 IO12, 14 IO13, 15 IO14, 16 IO15, 17 IO16/BOOT, 18 IO17, 19 IO18, 20 IO19, 21 IO20, 22 IO21, 23 IO22, 24 IO23, 25 IO24, 26 IO25, 27 IO26, 28 IO27, 29 IO28, 30 IO29, 31 IO30, 32 IO31, 33 IO32, 34 IO33, 35 IO34, 36 IO35, 37 IO36, 38 IO37, 39 IO38, 40 IO39, 41 IO40, 42 IO41, 43 IO42, 44 IO43, 45 IO44, 46 IO45, 47 IO46, 48 IO47, 49 GND, 50 GND, 51 5V, 52 5V, 53 1V8, 54 3V3, 55 RST, 56 LCD_D7, 57 LCD_D6, 58 LCD_D5, 59 LCD_D4, 60 LCD_D3, 61 LCD_D2, 62 LCD_D1, 63 LCD_D0, 64 DVP_D7, 65 DVP_D6, 66 DVP_D5, 67 DVP_D4, 68 DVP_D3, 69 DVP_D2, 70 DVP_D1, 71 DVP_D0, 72 GND

## VisionSOM-6UL
designator *  value VisionSOM-6UL  Reference: U
i.MX6-UL NXP ARM Cortex-A7 696MHz single core industrial SoM computer; ki_keywords: somlabs module; ki_fp_filters: *SODIMM*; Datasheet: https://wiki.somlabs.com/extensions/JZPDFGen/pdf/VisionSOM-6UL%20Datasheet%20and%20Pinout-41.pdf; Description_: i.MX6-UL NXP ARM Cortex-A7 696MHz single core industrial SoM computer
pins: 1 GND, 2 GND, 3 PMIC-STBY-REQ, 4 ~{{MX6-POR-B}}, 5 PMIC-ON-REQ, 6 VDD-SNVS-3V3, 7 BOOT-MODE1, 8 VDD-COIN-3V, 9 BOOT-MODE0, 10 SNVS-TAMPER9, 11 USB-OTG2-VBUS, 12 SNVS-TAMPER5, 13 USB-OTG1-VBUS, 14 ONOFF, 15 GND, 16 ~{{POR-B}}, 17 GND, 18 SNVS-TAMPER8, 19 USB-OTG2-DP, 20 GND, 21 USB-OTG2-DN, 22 GND, 23 GND, 24 SNVS-TAMPER7, 25 USB-OTG1-DP, 26 GND, 27 USB-OTG1-DN, 28 GND, 29 GND, 30 SNVS-TAMPER4, 31 ~{{USB-OTG1-CHD}}, 32 SNVS-TAMPER1, 33 JTAG-MOD, 34 SNVS-TAMPER3, 35 GND, 36 SNVS-TAMPER0, 37 CLK1-N, 38 GND, 39 CLK1-P, 40 GND, 41 GND, 42 SNVS-TAMPER6, 43 JTAG-TDI, 44 SNVS-TAMPER2, 45 GPIO-8, 46 JTAG-TMS, 47 GPIO-4, 48 ~{{JTAG-TRST}}, 49 GPIO-5, 50 GND, 51 GND, 52 JTAG-TDO, 53 GPIO-7, 54 JTAG-TCK, 55 GPIO-3, 56 GPIO-9, 57 UART1-TXD, 58 GPIO-2, 59 GND, 60 GND, 61 GPIO-6, 62 GPIO-1, 63 UART1-RXD, 64 GPIO-0, 65 UART2-TXD, 66 UART1-CTS, 67 UART2-RXD, 68 UART5-RXD, 69 UART3-TXD, 70 GND, 71 GND, 72 UART2-CTS, 73 UART3-RXD, 74 UART1-RTS, 75 UART4-TXD, 76 UART3-CTS, 77 UART4-RXD, 78 UART2-RTS, 79 UART5-TXD, 80 UART3-RTS, 81 GND, 82 GND, 83 NC, 84 GND, 85 +3.3VOUT, 86 NC, 87 +3.3VOUT, 88 +3.3VOUT, 89 +3.3VOUT, 90 +3.3VOUT, 91 +3.3VOUT, 92 +3.3VOUT, 93 +3.3VOUT, 94 NC, 95 NC, 96 +5VIN, 97 ENET1-RXD0, 98 +5VIN, 99 ENET1-RXD1, 100 +5VIN, 101 ENET1-CRS-DV, 102 +5VIN, 103 GND, 104 +5VIN, 105 ENET2-TX-CLK, 106 +5VIN, 107 GND, 108 +5VIN, 109 ENET2-RXER, 110 +5VIN, 111 ENET2-RXD0, 112 +5VIN, 113 ENET2-RXD1, 114 ENET1-TXEN, 115 GND, 116 GND, 117 ENET2-CRS-DV, 118 ENET1-TX-CLK, 119 ENET2-TXD1, 120 GND, 121 ENET2-TXEN, 122 ENET1-TXD0, 123 ENET2-TXD0, 124 ENET1-TXD1, 125 GND, 126 ENET1-RXER, 127 GND, 128 GND, 129 LCD-DATA21, 130 GND, 131 LCD-DATA22, 132 GND, 133 LCD-DATA17, 134 LCD-DATA23, 135 GND, 136 GND, 137 LCD-DATA18, 138 LCD-DATA19, 139 LCD-DATA13, 140 LCD-DATA20, 141 LCD-DATA14, 142 LCD-DATA15, 143 LCD-DATA8, 144 LCD-DATA16, 145 LCD-DATA9, 146 GND, 147 GND, 148 LCD-DATA11, 149 LCD-DATA5, 150 LCD-DATA12, 151 LCD-DATA6, 152 LCD-DATA10, 153 LCD-DATA0, 154 LCD-DATA3, 155 LCD-DATA1, 156 GND, 157 LCD-RESET, 158 LCD-DATA4, 159 GND, 160 LCD-HSYNC, 161 LCD-CLK, 162 LCD-VSYNC, 163 LCD-ENABLE, 164 LCD-DATA2, 165 GND, 166 LCD-DATA7, 167 SDIO1-D0, 168 GND, 169 SDIO1-D3, 170 GND, 171 SDIO1-D1, 172 GND, 173 SDIO1-CMD, 174 GND, 175 SDIO1-D2, 176 GND, 177 GND, 178 GND, 179 SDIO1-CLK, 180 GND, 181 GND, 182 GND, 183 CSI-PIXCLK, 184 GND, 185 GND, 186 CSI-DATA6, 187 CSI-MCLK, 188 CSI-DATA7, 189 GND, 190 CSI-DATA5, 191 CSI-DATA4, 192 CSI-DATA3, 193 CSI-DATA1, 194 CSI-DATA2, 195 CSI-DATA0, 196 CSI-VREF, 197 CSI-HSYNC, 198 CSI-VSYNC, 199 GND, 200 GND

## VisionSOM-6ULL
designator *  value VisionSOM-6ULL  Reference: U
i.MX6-ULL NXP ARM Cortex-A7 900MHz single core industrial SoM computer; ki_keywords: somlabs module; ki_fp_filters: *SODIMM*; Datasheet: https://wiki.somlabs.com/extensions/JZPDFGen/pdf/VisionSOM-6ULL%20Datasheet%20and%20Pinout-21.pdf; Description_: i.MX6-ULL NXP ARM Cortex-A7 900MHz single core industrial SoM computer
pins: 1 GND, 2 GND, 3 PMIC-STBY-REQ, 4 ~{{MX6-POR-B}}, 5 PMIC-ON-REQ, 6 VDD-SNVS-3V3, 7 BOOT-MODE1, 8 VDD-COIN-3V, 9 BOOT-MODE0, 10 SNVS-TAMPER9, 11 USB-OTG2-VBUS, 12 SNVS-TAMPER5, 13 USB-OTG1-VBUS, 14 ONOFF, 15 GND, 16 ~{{POR-B}}, 17 GND, 18 SNVS-TAMPER8, 19 USB-OTG2-DP, 20 GND, 21 USB-OTG2-DN, 22 GND, 23 GND, 24 SNVS-TAMPER7, 25 USB-OTG1-DP, 26 GND, 27 USB-OTG1-DN, 28 GND, 29 GND, 30 SNVS-TAMPER4, 31 ~{{USB-OTG1-CHD}}, 32 SNVS-TAMPER1, 33 JTAG-MOD, 34 SNVS-TAMPER3, 35 GND, 36 SNVS-TAMPER0, 37 CLK1-N, 38 GND, 39 CLK1-P, 40 GND, 41 GND, 42 SNVS-TAMPER6, 43 JTAG-TDI, 44 SNVS-TAMPER2, 45 GPIO-8, 46 JTAG-TMS, 47 GPIO-4, 48 ~{{JTAG-TRST}}, 49 GPIO-5, 50 GND, 51 GND, 52 JTAG-TDO, 53 GPIO-7, 54 JTAG-TCK, 55 GPIO-3, 56 GPIO-9, 57 UART1-TXD, 58 GPIO-2, 59 GND, 60 GND, 61 GPIO-6, 62 GPIO-1, 63 UART1-RXD, 64 GPIO-0, 65 UART2-TXD, 66 UART1-CTS, 67 UART2-RXD, 68 UART5-RXD, 69 UART3-TXD, 70 GND, 71 GND, 72 UART2-CTS, 73 UART3-RXD, 74 UART1-RTS, 75 UART4-TXD, 76 UART3-CTS, 77 UART4-RXD, 78 UART2-RTS, 79 UART5-TXD, 80 UART3-RTS, 81 GND, 82 GND, 83 NC, 84 GND, 85 +3.3VOUT, 86 NC, 87 +3.3VOUT, 88 +3.3VOUT, 89 +3.3VOUT, 90 +3.3VOUT, 91 +3.3VOUT, 92 +3.3VOUT, 93 +3.3VOUT, 94 NC, 95 NC, 96 +5VIN, 97 ENET1-RXD0, 98 +5VIN, 99 ENET1-RXD1, 100 +5VIN, 101 ENET1-CRS-DV, 102 +5VIN, 103 GND, 104 +5VIN, 105 ENET2-TX-CLK, 106 +5VIN, 107 GND, 108 +5VIN, 109 ENET2-RXER, 110 +5VIN, 111 ENET2-RXD0, 112 +5VIN, 113 ENET2-RXD1, 114 ENET1-TXEN, 115 GND, 116 GND, 117 ENET2-CRS-DV, 118 ENET1-TX-CLK, 119 ENET2-TXD1, 120 GND, 121 ENET2-TXEN, 122 ENET1-TXD0, 123 ENET2-TXD0, 124 ENET1-TXD1, 125 GND, 126 ENET1-RXER, 127 GND, 128 GND, 129 LCD-DATA21, 130 GND, 131 LCD-DATA22, 132 GND, 133 LCD-DATA17, 134 LCD-DATA23, 135 GND, 136 GND, 137 LCD-DATA18, 138 LCD-DATA19, 139 LCD-DATA13, 140 LCD-DATA20, 141 LCD-DATA14, 142 LCD-DATA15, 143 LCD-DATA8, 144 LCD-DATA16, 145 LCD-DATA9, 146 GND, 147 GND, 148 LCD-DATA11, 149 LCD-DATA5, 150 LCD-DATA12, 151 LCD-DATA6, 152 LCD-DATA10, 153 LCD-DATA0, 154 LCD-DATA3, 155 LCD-DATA1, 156 GND, 157 LCD-RESET, 158 LCD-DATA4, 159 GND, 160 LCD-HSYNC, 161 LCD-CLK, 162 LCD-VSYNC, 163 LCD-ENABLE, 164 LCD-DATA2, 165 GND, 166 LCD-DATA7, 167 SDIO1-D0, 168 GND, 169 SDIO1-D3, 170 GND, 171 SDIO1-D1, 172 GND, 173 SDIO1-CMD, 174 GND, 175 SDIO1-D2, 176 GND, 177 GND, 178 GND, 179 SDIO1-CLK, 180 GND, 181 GND, 182 GND, 183 CSI-PIXCLK, 184 GND, 185 GND, 186 CSI-DATA6, 187 CSI-MCLK, 188 CSI-DATA7, 189 GND, 190 CSI-DATA5, 191 CSI-DATA4, 192 CSI-DATA3, 193 CSI-DATA1, 194 CSI-DATA2, 195 CSI-DATA0, 196 CSI-VREF, 197 CSI-HSYNC, 198 CSI-VSYNC, 199 GND, 200 GND

## VisionSOM-RT
designator *  value VisionSOM-RT  Reference: U
i.MX-RT NXP ARM Cortex-M7 528MHz single core industrial SoM computer; ki_keywords: somlabs module; ki_fp_filters: *SODIMM*; Datasheet: https://wiki.somlabs.com/index.php/VisionSOM-RT_Datasheet_and_Pinout; Description_: i.MX-RT NXP ARM Cortex-M7 528MHz single core industrial SoM computer
pins: 1 GND, 2 GND, 3 PMIC-STBY-REQ, 4 ~{{MX6-POR-B}}, 5 PMIC-ON-REQ, 6 VDD-SNVS-3V3, 7 BOOT-MODE1, 8 VDD-COIN-3V, 9 BOOT-MODE0, 10 SNVS-TAMPER9, 11 USB-OTG2-VBUS, 12 SNVS-TAMPER5, 13 USB-OTG1-VBUS, 14 ONOFF, 15 GND, 16 ~{{POR-B}}, 17 GND, 18 SNVS-TAMPER8, 19 USB-OTG2-DP, 20 GND, 21 USB-OTG2-DN, 22 GND, 23 GND, 24 SNVS-TAMPER7, 25 USB-OTG1-DP, 26 GND, 27 USB-OTG1-DN, 28 GND, 29 GND, 30 SNVS-TAMPER4, 31 ~{{USB-OTG1-CHD}}, 32 SNVS-TAMPER1, 33 JTAG-MOD, 34 SNVS-TAMPER3, 35 GND, 36 SNVS-TAMPER0, 37 CLK1-N, 38 GND, 39 CLK1-P, 40 GND, 41 GND, 42 SNVS-TAMPER6, 43 JTAG-TDI, 44 SNVS-TAMPER2, 45 GPIO-8, 46 JTAG-TMS, 47 GPIO-4, 48 ~{{JTAG-TRST}}, 49 GPIO-5, 50 GND, 51 GND, 52 JTAG-TDO, 53 GPIO-7, 54 JTAG-TCK, 55 GPIO-3, 56 GPIO-9, 57 UART1-TXD, 58 GPIO-2, 59 GND, 60 GND, 61 GPIO-6, 62 GPIO-1, 63 UART1-RXD, 64 GPIO-0, 65 UART2-TXD, 66 UART1-CTS, 67 UART2-RXD, 68 UART5-RXD, 69 UART3-TXD, 70 GND, 71 GND, 72 UART2-CTS, 73 UART3-RXD, 74 UART1-RTS, 75 UART4-TXD, 76 UART3-CTS, 77 UART4-RXD, 78 UART2-RTS, 79 UART5-TXD, 80 UART3-RTS, 81 GND, 82 GND, 83 NC, 84 GND, 85 +3.3VOUT, 86 NC, 87 +3.3VOUT, 88 +3.3VOUT, 89 +3.3VOUT, 90 +3.3VOUT, 91 +3.3VOUT, 92 +3.3VOUT, 93 +3.3VOUT, 94 NC, 95 NC, 96 +5VIN, 97 ENET1-RXD0, 98 +5VIN, 99 ENET1-RXD1, 100 +5VIN, 101 ENET1-CRS-DV, 102 +5VIN, 103 GND, 104 +5VIN, 105 ENET2-TX-CLK, 106 +5VIN, 107 GND, 108 +5VIN, 109 ENET2-RXER, 110 +5VIN, 111 ENET2-RXD0, 112 +5VIN, 113 ENET2-RXD1, 114 ENET1-TXEN, 115 GND, 116 GND, 117 ENET2-CRS-DV, 118 ENET1-TX-CLK, 119 ENET2-TXD1, 120 GND, 121 ENET2-TXEN, 122 ENET1-TXD0, 123 ENET2-TXD0, 124 ENET1-TXD1, 125 GND, 126 ENET1-RXER, 127 GND, 128 GND, 129 LCD-DATA21, 130 GND, 131 LCD-DATA22, 132 GND, 133 LCD-DATA17, 134 LCD-DATA23, 135 GND, 136 GND, 137 LCD-DATA18, 138 LCD-DATA19, 139 LCD-DATA13, 140 LCD-DATA20, 141 LCD-DATA14, 142 LCD-DATA15, 143 LCD-DATA8, 144 LCD-DATA16, 145 LCD-DATA9, 146 GND, 147 GND, 148 LCD-DATA11, 149 LCD-DATA5, 150 LCD-DATA12, 151 LCD-DATA6, 152 LCD-DATA10, 153 LCD-DATA0, 154 LCD-DATA3, 155 LCD-DATA1, 156 GND, 157 LCD-RESET, 158 LCD-DATA4, 159 GND, 160 LCD-HSYNC, 161 LCD-CLK, 162 LCD-VSYNC, 163 LCD-ENABLE, 164 LCD-DATA2, 165 GND, 166 LCD-DATA7, 167 SDIO1-D0, 168 GND, 169 SDIO1-D3, 170 GND, 171 SDIO1-D1, 172 GND, 173 SDIO1-CMD, 174 GND, 175 SDIO1-D2, 176 NC, 177 GND, 178 NC, 179 SDIO1-CLK, 180 NC, 181 GND, 182 NC, 183 NC, 184 GND, 185 GND, 186 NC, 187 NC, 188 NC, 189 GND, 190 NC, 191 NC, 192 NC, 193 NC, 194 NC, 195 NC, 196 NC, 197 NC, 198 NC, 199 GND, 200 GND

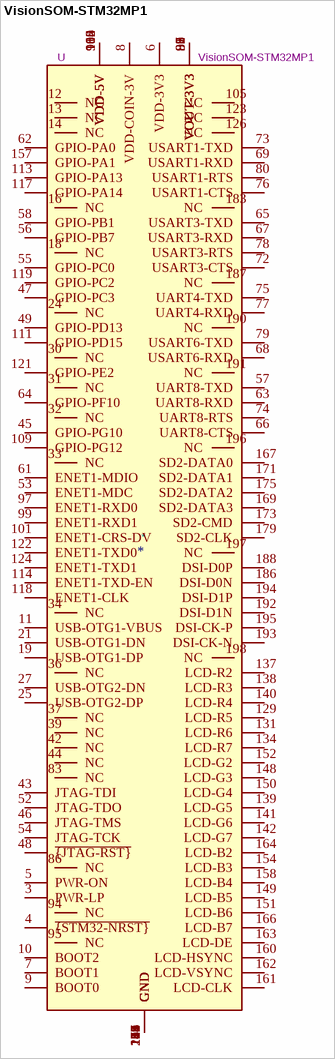
[diagram p11: symbol VisionSOM-STM32MP1]

## VisionSOM-STM32MP1
designator *  value VisionSOM-STM32MP1  Reference: U
STM32MP1 STMicroelectronics ARM Cortex-A7 800MHz single/dual core + ARM Cortex-M4 209MHz single core industrial SoM computer; ki_keywords: somlabs module; ki_fp_filters: *SODIMM*; Datasheet: https://wiki.somlabs.com/index.php/VisionSOM-STM32MP1_Datasheet_and_Pinout; Description_: STM32MP1 STMicroelectronics ARM Cortex-A7 800MHz single/dual core + ARM Cortex-M4 209MHz single core industrial SoM computer
pins: 1 GND, 2 GND, 3 PWR-LP, 4 ~{{STM32-NRST}}, 5 PWR-ON, 6 VDD-3V3, 7 BOOT1, 8 VDD-COIN-3V, 9 BOOT0, 10 BOOT2, 11 USB-OTG1-VBUS, 12 NC, 13 NC, 14 NC, 15 GND, 16 NC, 17 GND, 18 NC, 19 USB-OTG1-DP, 20 GND, 21 USB-OTG1-DN, 22 GND, 23 GND, 24 NC, 25 USB-OTG2-DP, 26 GND, 27 USB-OTG2-DN, 28 GND, 29 GND, 30 NC, 31 NC, 32 NC, 33 NC, 34 NC, 35 GND, 36 NC, 37 NC, 38 GND, 39 NC, 40 GND, 41 GND, 42 NC, 43 JTAG-TDI, 44 NC, 45 GPIO-PG10, 46 JTAG-TMS, 47 GPIO-PC3, 48 ~{{JTAG-RST}}, 49 GPIO-PD13, 50 GND, 51 GND, 52 JTAG-TDO, 53 ENET1-MDC, 54 JTAG-TCK, 55 GPIO-PC0, 56 GPIO-PB7, 57 UART8-TXD, 58 GPIO-PB1, 59 GND, 60 GND, 61 ENET1-MDIO, 62 GPIO-PA0, 63 UART8-RXD, 64 GPIO-PF10, 65 USART3-TXD, 66 UART8-CTS, 67 USART3-RXD, 68 USART6-RXD, 69 USART1-RXD, 70 GND, 71 GND, 72 USART3-CTS, 73 USART1-TXD, 74 UART8-RTS, 75 UART4-TXD, 76 USART1-CTS, 77 UART4-RXD, 78 USART3-RTS, 79 USART6-TXD, 80 USART1-RTS, 81 GND, 82 GND, 83 NC, 84 GND, 85 VOUT-3V3, 86 NC, 87 VOUT-3V3, 88 VOUT-3V3, 89 VOUT-3V3, 90 VOUT-3V3, 91 VOUT-3V3, 92 VOUT-3V3, 93 VOUT-3V3, 94 NC, 95 NC, 96 VDD-5V, 97 ENET1-RXD0, 98 VDD-5V, 99 ENET1-RXD1, 100 VDD-5V, 101 ENET1-CRS-DV, 102 VDD-5V, 103 GND, 104 VDD-5V, 105 NC, 106 VDD-5V, 107 GND, 108 VDD-5V, 109 GPIO-PG12, 110 VDD-5V, 111 GPIO-PD15, 112 VDD-5V, 113 GPIO-PA13, 114 ENET1-TXD-EN, 115 GND, 116 GND, 117 GPIO-PA14, 118 ENET1-CLK, 119 GPIO-PC2, 120 GND, 121 GPIO-PE2, 122 ENET1-TXD0, 123 NC, 124 ENET1-TXD1, 125 GND, 126 NC, 127 GND, 128 GND, 129 LCD-R5, 130 GND, 131 LCD-R6, 132 GND, 133 GND, 134 LCD-R7, 135 GND, 136 GND, 137 LCD-R2, 138 LCD-R3, 139 LCD-G5, 140 LCD-R4, 141 LCD-G6, 142 LCD-G7, 143 GND, 144 GND, 145 GND, 146 GND, 147 GND, 148 LCD-G3, 149 LCD-B5, 150 LCD-G4, 151 LCD-B6, 152 LCD-G2, 153 GND, 154 LCD-B3, 155 GND, 156 GND, 157 GPIO-PA1, 158 LCD-B4, 159 GND, 160 LCD-HSYNC, 161 LCD-CLK, 162 LCD-VSYNC, 163 LCD-DE, 164 LCD-B2, 165 GND, 166 LCD-B7, 167 SD2-DATA0, 168 GND, 169 SD2-DATA3, 170 GND, 171 SD2-DATA1, 172 GND, 173 SD2-CMD, 174 GND, 175 SD2-DATA2, 176 GND, 177 GND, 178 GND, 179 SD2-CLK, 180 GND, 181 GND, 182 GND, 183 NC, 184 GND, 185 GND, 186 DSI-D0N, 187 NC, 188 DSI-D0P, 189 GND, 190 NC, 191 NC, 192 DSI-D1N, 193 DSI-CK-N, 194 DSI-D1P, 195 DSI-CK-P, 196 NC, 197 NC, 198 NC, 199 GND, 200 GND